# EAGLE library part TBP01R2W-508-06BE (library TBP01R2W-508-06BE)
2~24 Poles, Pluggable, Receptacle, Vertical 5.08 Pitch, Terminal Block Connector Source: Datasheet <https://www.sameskydevices.com/product/resource/supplyframepdf/tbp01r2w-508.pdf>
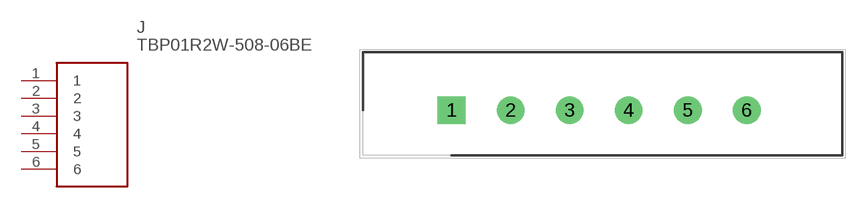
[diagram p0: symbol with the pads of SHDR6W100P0X508_1X6_4064X850X1; footprint SHDR6W100P0X508_1X6_4064X850X1]

Designator prefix J

## TBP01R2W-508-06BE (Description: 2~24 Poles, Pluggable, Receptacle, Vertical 5.08 Pitch, Terminal Block Connector; Height: 12.4mm; Manufacturer_Name: Same Sky; Manufacturer_Part_Number: TBP01R2W-508-06BE; Mouser_Part_Number: 490-TBP01R2W-50806BE; Mouser_Price-Stock: https://www.mouser.co.uk/ProductDetail/Same-Sky/TBP01R2W-508-06BE?qs=PzGy0jfpSMstd7VozfoB7g%3D%3D)  [SHDR6W100P0X508_1X6_4064X850X1]
1  1
2  2
3  3
4  4
5  5
6  6

## Footprint SHDR6W100P0X508_1X6_4064X850X1 (pad centres in mm)
TBP01R2W-508-06BE
drill 1.6 pad 2.4 square: 1 0,0
drill 1.6 pad 2.4: 2 5.08,0; 3 10.16,0; 4 15.24,0; 5 20.32,0; 6 25.4,0